# EAGLE library part MSC908JM16 (library freescale)
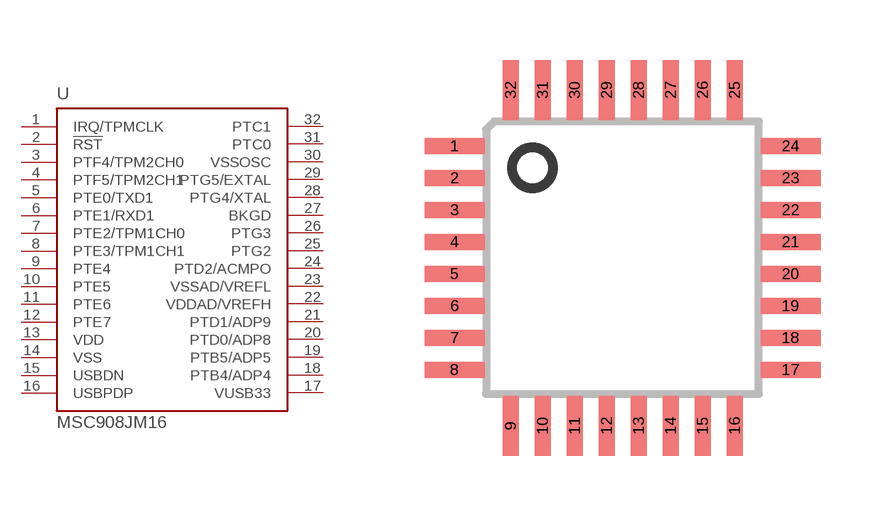
[diagram p8: symbol with the pads of QFP32; footprint QFP32]

Designator prefix -

## MSC908JM16  [QFP32]
1  IRQ/TPMCLK
2  !RST  in
3  PTF4/TPM2CH0
4  PTF5/TPM2CH1
5  PTE0/TXD1
6  PTE1/RXD1
7  PTE2/TPM1CH0
8  PTE3/TPM1CH1
9  PTE4
10  PTE5
11  PTE6
12  PTE7
13  VDD  pwr
14  VSS  pwr
15  USBDN
16  USBPDP
17  VUSB33
18  PTB4/ADP4
19  PTB5/ADP5
20  PTD0/ADP8
21  PTD1/ADP9
22  VDDAD/VREFH
23  VSSAD/VREFL
24  PTD2/ACMPO
25  PTG2
26  PTG3
27  BKGD
28  PTG4/XTAL
29  PTG5/EXTAL
30  VSSOSC
31  PTC0
32  PTC1

## Footprint QFP32 (pad centres in mm)
smd 1.5 x 0.4: 1 -4.2,2.8; 2 -4.2,2; 3 -4.2,1.2; 4 -4.2,0.4; 5 -4.2,-0.4; 6 -4.2,-1.2; 7 -4.2,-2; 8 -4.2,-2.8; 17 4.2,-2.8; 18 4.2,-2; 19 4.2,-1.2; 20 4.2,-0.4; 21 4.2,0.4; 22 4.2,1.2; 23 4.2,2; 24 4.2,2.8
smd 0.4 x 1.5: 9 -2.8,-4.2; 10 -2,-4.2; 11 -1.2,-4.2; 12 -0.4,-4.2; 13 0.4,-4.2; 14 1.2,-4.2; 15 2,-4.2; 16 2.8,-4.2; 25 2.8,4.2; 26 2,4.2; 27 1.2,4.2; 28 0.4,4.2; 29 -0.4,4.2; 30 -1.2,4.2; 31 -2,4.2; 32 -2.8,4.2